# EAGLE library part RFM9X_LORA (library RFM9x_LoRa)
RFM9x LoRa Radio Transciever https://learn.adafruit.com/adafruit-rfm69hcw-and-rfm96-rfm95-rfm98-lora-packet-padio-breakouts
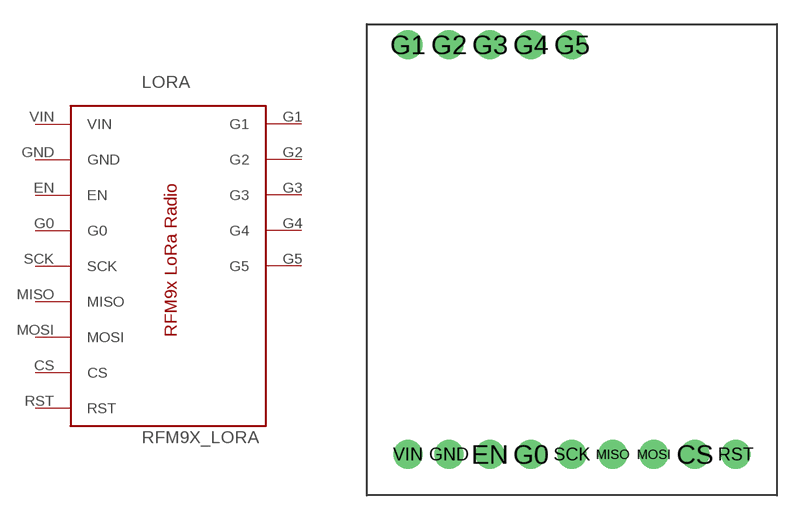
[diagram p0: symbol with the pads of RFM9X_LORA; footprint RFM9X_LORA]

Designator prefix LORA

## RFM9X_LORA  [RFM9X_LORA]
CS  CS
EN  EN
G0  G0
G1  G1
G2  G2
G3  G3
G4  G4
G5  G5
GND  GND  pwr
MISO  MISO
MOSI  MOSI
RST  RST
SCK  SCK
VIN  VIN  pwr

## Footprint RFM9X_LORA (pad centres in mm)
drill 1 pad 1.778: CS 20.32,2.54; EN 7.62,2.54; G0 10.16,2.54; G1 2.54,27.94; G2 5.08,27.94; G3 7.62,27.94; G4 10.16,27.94; G5 12.7,27.94; GND 5.08,2.54; MISO 15.24,2.54; MOSI 17.78,2.54; RST 22.86,2.54; SCK 12.7,2.54; VIN 2.54,2.54